# Altium footprint library 3sot523.PcbLib: 1 footprints
Each footprint in its own frame and in the unit in brackets; x right, y up, seen from the top. Pads: shape width x height; smd on the part's side, far side on the other; paste and mask are expansions set on the pad; w line width, h text height; cw(c..) or ccw(c..) is an arc to the next point about the centre after c.
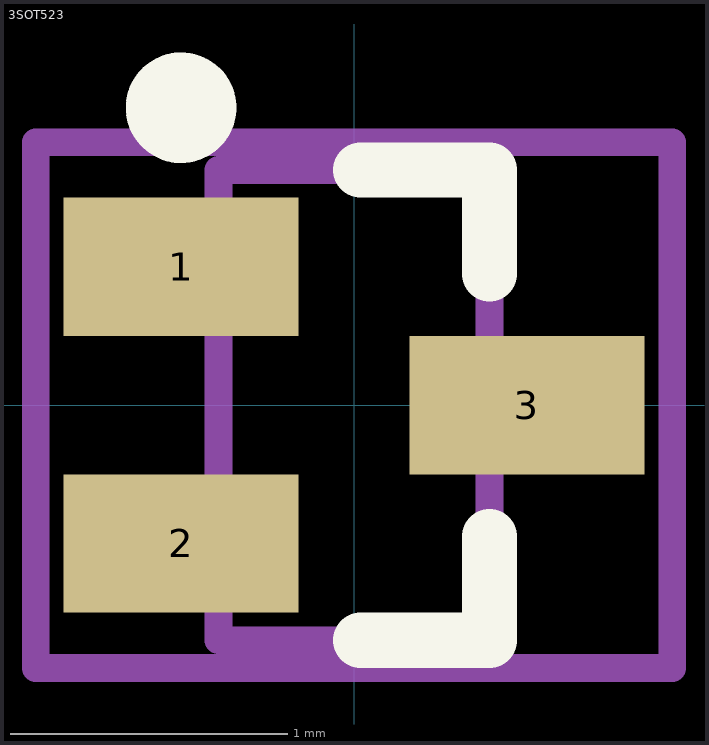
[diagram p0: the footprint, top view; thin cyan lines are the x and y axes]

## 3SOT523 [mm] "SOT23, 3-Leads, Body 1.7x1.7mm (max), Pitch 0.50mm, IPC High Density"
height 0.75
pads (3):
  rect 0.85x0.5 smd: 1(-0.625,0.5) 2(-0.625,-0.5) 3(0.625,0)
Top Overlay:
  circle w0.2: c-0.625,1.075 r0.1
  lines w0.2: 0.025,-0.85 0.49,-0.85 0.49,-0.475 ; 0.025,0.85 0.49,0.85 0.49,0.475
Top 3D Body:
  lines w0.1: -0.49,-0.85 0.49,-0.85 0.49,0.85 -0.49,0.85 -0.49,-0.85
Top Courtyard:
  lines w0.1: -1.15,-0.95 1.15,-0.95 1.15,0.95 -1.15,0.95 -1.15,-0.95
Top Designator (Mech17):
  text ".Designator" at -0.125,0.65 h0.3
3D body "MMBT3906T RSG.step": height 0.91, standoff 0.01, extent -0.8,-0.8 0.8,0.8